# Altium schematic symbol library Schlib1.SchLib: 7 symbols
Pins are listed as number, name and electrical type; pins without a type are passive.

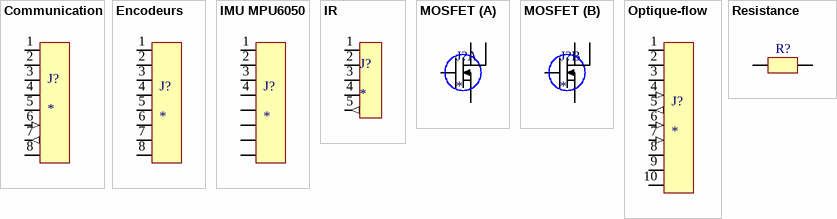
[diagram p0: symbols Communication to Resistance]

## Communication
designator J?
Communication radio
footprint Comm nRF24L01 (Module communication)
pins: 1 (power) "GND", 2 (power) "3.3V", 3 "CE", 4 "CSN", 5 "SCK", 6 (in) "MOSI", 7 (out) "MISO", 8 "IRQ"

## Encodeurs
designator J?
AS5048A
footprint Encodeur/IMU (Encodeur et IMU 8 broches 2.54 mm)
pins: 1 (power) "5V", 2 (power) "3.3V", 3 "PWM", 4, 5 "SCK", 6, 7 "MISO", 8 (power) "GND"

## IMU MPU6050
designator J?
MPU6050 IMU
footprint Encodeur/IMU (Encodeur et IMU 8 broches 2.54 mm)
pins: 1 (power) "Vcc", 2 (power) "GND", 3 "Clock", 4 (io) "DATA", 5, 6, 7, 8

## IR
designator J?
Connecteur IR
footprint IR (empreinte partie IR dribleur)
pins: 1 (power) "Vcc", 2 (power) "GND", 3 (power) "Vcc", 4 (power) "GND", 5 (out) "OUT"

## MOSFET
designator J?
MOSFET ESC IRF7910 10 A
footprint MOSFET (MOSFET irf7910)
part A pins: 1, 2, 7, 8
part B pins: 3, 4, 5, 6

## Optique-flow
designator J?
ADNS3080
footprint IR_optique
pins: 1 (power) "GND", 2 (power) "5V", 3 (power) "3V", 4 (in) "NCS", 5 (out) "MOSI", 6 (in) "MOSI", 7 (in) "CLK", 8 "RST", 9 "NPO", 10 "LED"

## Resistance
designator R?  (value not drawn)
Resistance; 100 Ohms: 100 Ohms
footprint empreinte 1206 (empreinte1206)
pins: 1, 2